# Altium footprint library SwitchPower.PcbLib: 5 footprints
Each footprint in its own frame and in the unit in brackets; x right, y up, seen from the top. Pads: shape width x height; smd on the part's side, far side on the other; paste and mask are expansions set on the pad; w line width, h text height; cw(c..) or ccw(c..) is an arc to the next point about the centre after c.
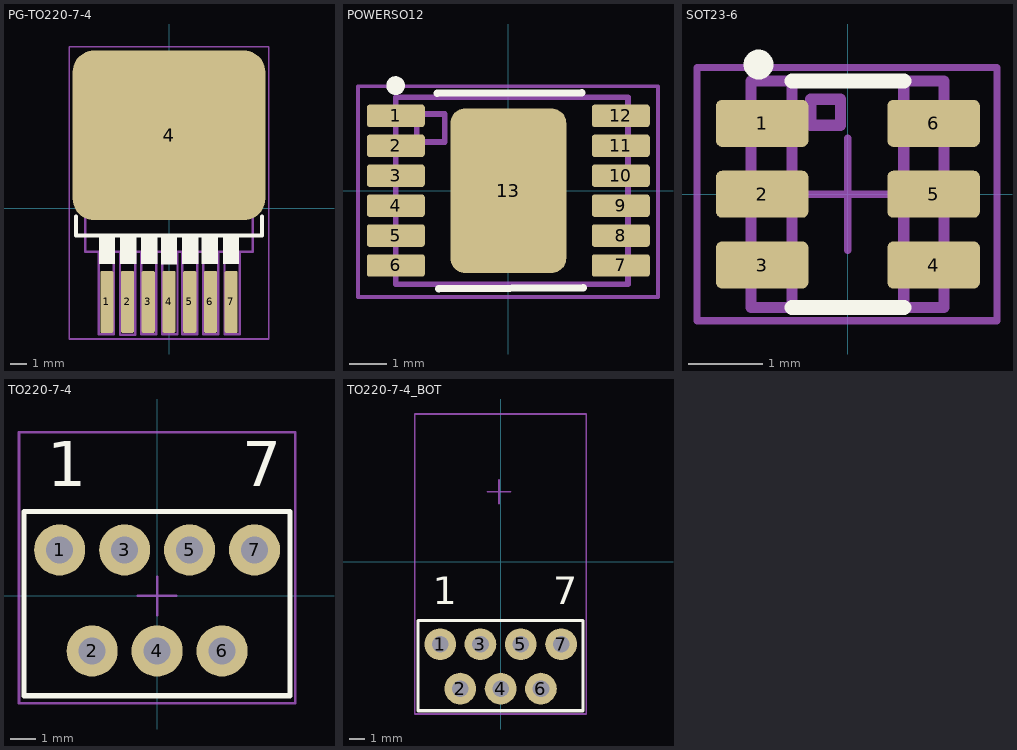
[diagram p0: the footprints below, top view; thin cyan lines are the x and y axes]

## PG-TO220-7-4 [mm]
pads (8):
  rrect25% 0.8x3.8 smd: 1(-3.81,-5.725) 2(-2.54,-5.725) 3(-1.27,-5.725) 4(0,-5.725) 5(1.27,-5.725) 6(2.54,-5.725) 7(3.81,-5.725)
  rrect25% 11.8x10.4 smd: 4(0,4.475)
Top Overlay:
  rectangle: -4.3,-3.4 -3.3,-1.712
  rectangle: -3,-3.4 -2,-1.712
  rectangle: -1.7,-3.4 -0.7,-1.712
  rectangle: -0.5,-3.441 0.5,-1.752
  rectangle: 0.8,-3.4 1.8,-1.712
  rectangle: 2,-3.4 3,-1.712
  rectangle: 3.3,-3.4 4.3,-1.712
  lines w0.254: -5.7,-0.5 -5.7,-1.659 5.7,-1.659 5.7,-0.5
Mechanical 9:
  text ".Designator" at -5,6.5 h3.5
Mechanical 10:
  text ".Comment" at -3.099,-14.1 h2
Mechanical 11:
  lines w0.15: -5.131,-2.659 -5.131,6.675 ; -5.1,-2.659 5.1,-2.659 ; -4.3,-2.659 -4.3,-7.7 -3.378,-7.7 -3.378,-2.659 ; -3,-2.7 -3,-7.741 -2.078,-7.741 -2.078,-2.7 ; -1.7,-2.659 -1.7,-7.7 -0.778,-7.7 -0.778,-2.659 ; -0.4,-2.659 -0.4,-7.7 0.522,-7.7 0.522,-2.659 ; 0.8,-2.659 0.8,-7.7 1.722,-7.7 1.722,-2.659 ; 2.1,-2.659 2.1,-7.7 3.022,-7.7 3.022,-2.659 ; 3.4,-2.659 3.4,-7.7 4.322,-7.7 4.322,-2.659 ; 5.131,-2.659 5.131,6.675 ; -5.131,6.675 -5.131,6.929 -3.378,8.047 3.124,8.047 5.131,6.675 ; -5.131,6.675 5.131,6.675
Mechanical 15:
  lines w0.1: -0.85,4.4 0.65,4.4 ; -0.1,3.65 -0.1,5.15 ; -6.1,-8 -6.1,9.9 6.1,9.9 6.1,-8 -6.1,-8
3D body "User Library-D2PAK-7.step": height 4.5, standoff 0, extent -5.18,-6.909 5.22,8.765

## POWERSO12 [mm] "SOP, 20-Leads, Body 15.9x11mm, Pitch 1.27mm, IPC Medium Density"
height 3.6
pads (13):
  rrect25% 1.55x0.6 smd: 1(-3.007,2) 2(-3.007,1.2) 3(-3.007,0.4) 4(-3.007,-0.4) 5(-3.007,-1.2) 6(-3.007,-2) 7(3.007,-2) 8(3.007,-1.2) 9(3.007,-0.4) 10(3.007,0.4) 11(3.007,1.2) 12(3.007,2)
  rrect25% 3.1x4.4 smd: 13(0,0)
Top Overlay:
  circle w0.25: c-3.014,2.81 r0.125
  lines w0.2: -1.9,2.6 1.962,2.616 ; -1.862,-2.616 2,-2.6
Mechanical 7:
  lines w0.15: -3.007,-2.5 -3.007,2.5 3.2,2.5 3.2,-2.5 -3.007,-2.5 ; -2.45,1.3 -2.45,2.05 -1.7,2.05 -1.7,1.3 -2.45,1.3
Mechanical 9:
  text ".Designator" at -3.4,5.3 h3
Mechanical 10:
  text ".Comment" at -3.3,3.5 h2
Mechanical 15:
  lines w0.1: -1.25,0 1.25,0 ; 0,-1.25 0,1.25 ; -4.018,-2.845 4.001,-2.845 4.001,2.795 -4.018,2.795 -4.018,-2.845
3D body "User Library-PSSO-12.STEP": height 1.62, standoff -0.01, extent -3.007,-2.5 3.193,2.5

## SOT23-6 [mm]
height 1.12
pads (6):
  rrect25% 1.24x0.63 smd: 1(-1.15,0.95) 2(-1.15,0) 3(-1.15,-0.95) 4(1.15,-0.95) 5(1.15,0) 6(1.15,0.95)
Top Overlay:
  circle w0.2: c-1.2,1.74 r0.1
  lines w0.2: -0.75,-1.52 0.75,-1.52 ; -0.75,1.52 0.75,1.52
Mechanical 9:
  text ".Designator" at -4.275,2.525 h3.5
Mechanical 10:
  text ".Comment" at -3.025,-3.025 h2
Mechanical 11:
  lines w0.15: -0.75,-1.52 -0.75,1.52 ; 0.75,-1.52 0.75,1.52 ; -1.3,-1.52 -1.3,1.52 1.29,1.52 1.29,-1.52 -1.3,-1.52 ; -0.5,0.925 -0.1,0.925 -0.1,1.275 -0.5,1.275 -0.5,0.925
Mechanical 15:
  lines w0.1: -0.75,0 0.75,0 ; 0,-0.75 0,0.75 ; -2.025,-1.7 -2.025,1.7 2,1.7 2,-1.7 -2.025,-1.7
3D body "SW3dPS-SOT-23-6.STEP": height 1.09, standoff 0, extent -1.201,-1.397 1.225,1.397

## TO220-7-4 [mm]
pads (7):
  round 2 hole 1.05: 1(-3.81,1.8) 2(-2.54,-2.15) 3(-1.27,1.8) 4(0,-2.15) 5(1.27,1.8) 6(2.54,-2.15) 7(3.81,1.8)
Top Overlay:
  lines w0.2: -5.2,-3.9 -5.2,3.3 5.2,3.3 5.2,-3.9 -5.2,-3.9
  text "7" at 3.33,3.7 h3
  text "1" at -4.29,3.7 h3
Mechanical 9:
  text ".Designator" at -5.9,7.5 h3.5
Mechanical 10:
  text ".Comment" at -3.1,-6 h2
Mechanical 15:
  lines w0.1: -0.75,0 0.75,0 ; 0,-0.75 0,0.75 ; -5.4,-4.2 5.4,-4.2 5.4,6.4 -5.4,6.4 -5.4,-4.2
3D body "User Library-TO220-7-1.step": height 20.95, standoff -4.9, extent -5,-2.4 5,6.25

## TO220-7-4_BOT [mm]
pads (7):
  round 2 hole 1.05: 1(-3.81,-5.2) 2(-2.54,-8) 3(-1.27,-5.2) 4(0,-8) 5(1.27,-5.2) 6(2.54,-8) 7(3.81,-5.2)
Top Overlay:
  lines w0.2: -5.2,-9.4 5.2,-9.4 5.2,-3.7 -5.2,-3.7 -5.2,-9.4
  text "1" at -4.29,-3.3 h3
  text "7" at 3.33,-3.3 h3
Mechanical 9:
  text ".Designator" at -5,6.5 h3.5
Mechanical 10:
  text ".Comment" at -3.099,-14.1 h2
Mechanical 15:
  lines w0.1: -0.85,4.4 0.65,4.4 ; -0.1,3.65 -0.1,5.15 ; -5.4,-9.6 -5.4,9.3 5.4,9.3 5.4,-9.6 -5.4,-9.6
3D body "User Library-TO-220-7-2.step": height 1.76, standoff -9, extent -5.1,-8.19 5.06,9.19